# Altium footprint library XT30UPB-M.PcbLib: 1 footprints
Each footprint in its own frame and in the unit in brackets; x right, y up, seen from the top. Pads: shape width x height; smd on the part's side, far side on the other; paste and mask are expansions set on the pad; w line width, h text height; cw(c..) or ccw(c..) is an arc to the next point about the centre after c.
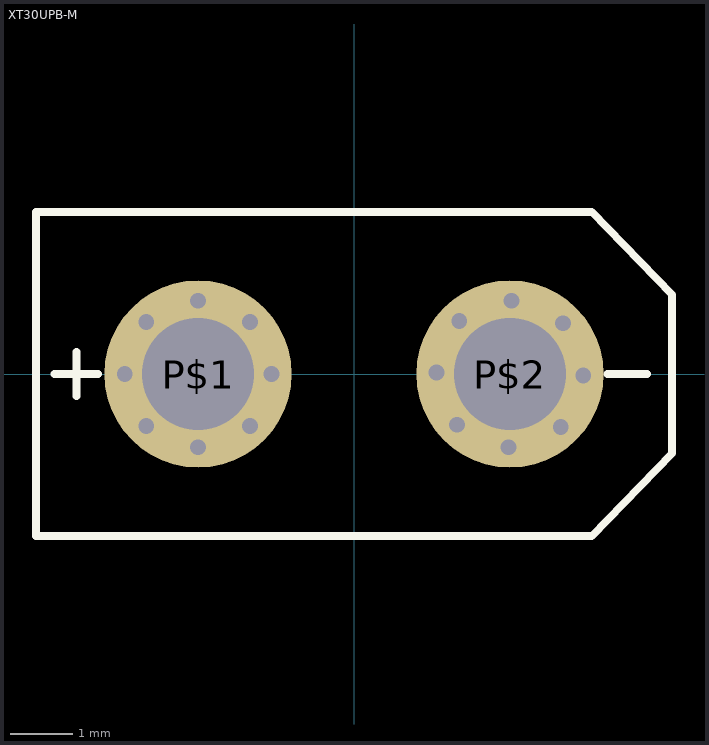
[diagram p0: the footprint, top view; thin cyan lines are the x and y axes]

## XT30UPB-M [mil]
pads (18):
  round 118.11 hole 70.87: P$1(-98.43,0) P$2(98.43,0)
  round 10 hole 10: ""(-144.69,0) ""(-131.14,-32.71) ""(-131.14,32.71) ""(-98.43,-46.26) ""(-98.43,46.26) ""(-65.71,-32.71) ""(-65.71,32.71) ""(-52.17,0) ""(52.17,0.98) ""(65.02,-32.01) ""(66.41,33.41) ""(97.44,-46.26) ""(99.41,46.26) ""(130.44,-33.41) ""(131.83,32.01) ""(144.69,-0.98)
Top Overlay:
  lines w5: -188.98,0 -161.42,0 ; -175,-13.78 -175,13.78 ; 160,0 185,0 ; -200.79,-102.36 150,-102.36 200.79,-50 200.79,50 150,102.36 -200.79,102.36 -200.79,-102.36
3D body "XT30UPB-M--3DModel-STEP-510211.STEP": height 421.26, standoff -78.74, extent -200.79,-102.36 200.79,102.36